# EAGLE library part PCA9685 (library LARS_409_MC3)
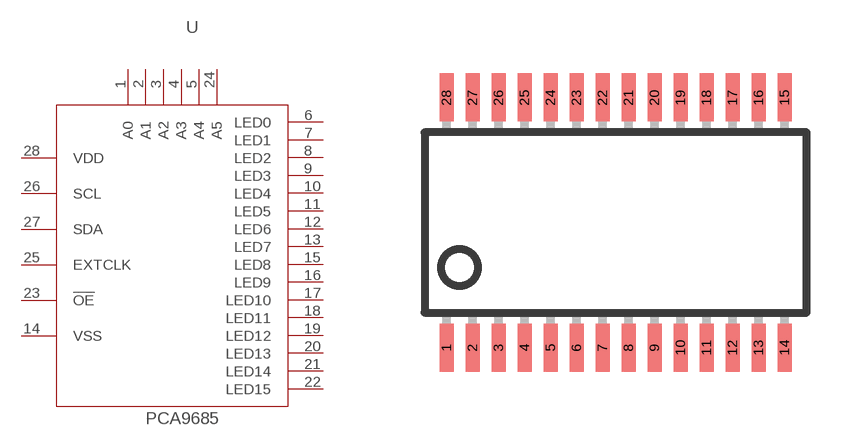
[diagram p29: symbol with the pads of TSSOP-28; footprint TSSOP-28]

Designator prefix -

## PCA9685  [TSSOP-28]
1  A0
2  A1
3  A2
4  A3
5  A4
6  LED0
7  LED1
8  LED2
9  LED3
10  LED4
11  LED5
12  LED6
13  LED7
14  VSS
15  LED8
16  LED9
17  LED10
18  LED11
19  LED12
20  LED13
21  LED14
22  LED15
23  !OE
24  A5
25  EXTCLK
26  SCL
27  SDA
28  VDD

## Footprint TSSOP-28 (pad centres in mm)
Infineon P-TSSOP-28-1 TDA 6060 XS cross-ref_pFET-60v_p_chan.pdf
smd 0.35 x 1.2: 1 -4.225,-3.125; 2 -3.575,-3.125; 3 -2.925,-3.125; 4 -2.275,-3.125; 5 -1.625,-3.125; 6 -0.975,-3.125; 7 -0.325,-3.125; 8 0.325,-3.125; 9 0.975,-3.125; 10 1.625,-3.125; 11 2.275,-3.125; 12 2.925,-3.125; 13 3.575,-3.125; 14 4.225,-3.125; 15 4.225,3.125; 16 3.575,3.125; 17 2.925,3.125; 18 2.275,3.125; 19 1.625,3.125; 20 0.975,3.125; 21 0.325,3.125; 22 -0.325,3.125; 23 -0.975,3.125; 24 -1.625,3.125; 25 -2.275,3.125; 26 -2.925,3.125; 27 -3.575,3.125; 28 -4.225,3.125